# Altium footprint library SI5332A-D-GM3.PcbLib: 3 footprints
Each footprint in its own frame and in the unit in brackets; x right, y up, seen from the top. Pads: shape width x height; smd on the part's side, far side on the other; paste and mask are expansions set on the pad; w line width, h text height; cw(c..) or ccw(c..) is an arc to the next point about the centre after c.
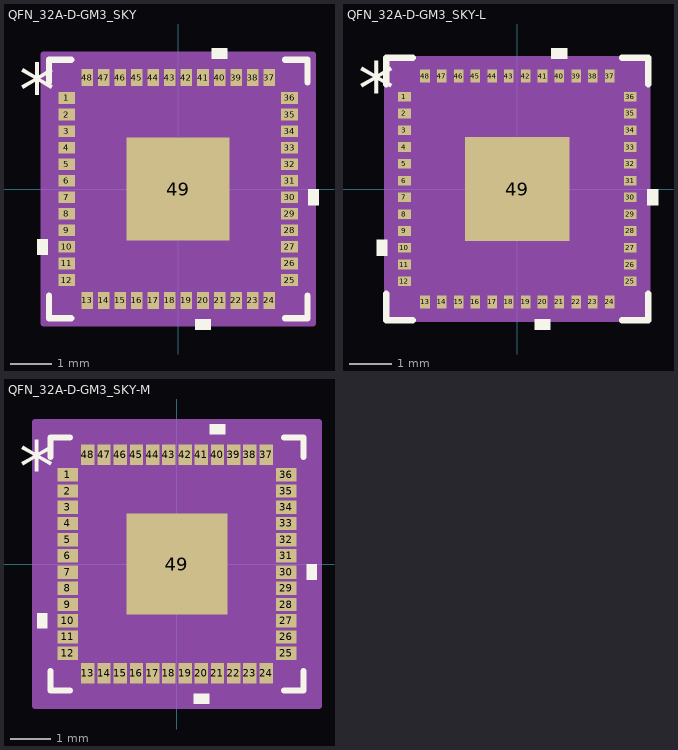
[diagram p0: the footprints below, top view; thin cyan lines are the x and y axes]

## QFN_32A-D-GM3_SKY [mil]
pads (49):
  rect 16x11 smd paste+0 mask+0: 1(-106,86.62) 2(-106,70.88) 3(-106,55.12) 4(-106,39.38) 5(-106,23.62) 6(-106,7.88) 7(-106,-7.88) 8(-106,-23.62) 9(-106,-39.38) 10(-106,-55.12) 11(-106,-70.88) 12(-106,-86.62) 25(106,-86.62) 26(106,-70.88) 27(106,-55.12) 28(106,-39.38) 29(106,-23.62) 30(106,-7.88) 31(106,7.88) 32(106,23.62) 33(106,39.38) 34(106,55.12) 35(106,70.88) 36(106,86.62)
  rect 11x16 smd paste+0 mask+0: 13(-86.62,-106) 14(-70.88,-106) 15(-55.12,-106) 16(-39.38,-106) 17(-23.62,-106) 18(-7.88,-106) 19(7.88,-106) 20(23.62,-106) 21(39.38,-106) 22(55.12,-106) 23(70.88,-106) 24(86.62,-106) 37(86.62,106) 38(70.88,106) 39(55.12,106) 40(39.38,106) 41(23.62,106) 42(7.88,106) 43(-7.88,106) 44(-23.62,106) 45(-39.38,106) 46(-55.12,106) 47(-70.88,106) 48(-86.62,106)
  rect 98x98 smd paste+0 mask+0: 49(0,0)
Top Overlay:
  region: -124,-47.62 -134,-47.62 -134,-62.62 -124,-62.62
  region: 31.12,-124 16.12,-124 16.12,-134 31.12,-134
  region: 124,-0.38 134,-0.38 134,-15.38 124,-15.38
  region: 46.88,124 31.88,124 31.88,134 46.88,134
  lines w6: -123,-101.64 -123,-123 -101.64,-123 ; -123,101.64 -123,123 -101.64,123 ; 101.64,-123 123,-123 123,-101.64 ; 101.64,123 123,123 123,101.64
  text "*" at -151.5,69.5 h50
Mechanical 13:
  drawing of 201 lines, arcs and shapes, not listed
  text "*" at -110.5,69.5 h50
Mechanical 15:
  region: -102.12,-128 -128,-128 -128,-102.12 -128,102.12 -128,128 -102.12,128 102.12,128 128,128 128,102.12 128,-102.12 128,-128 102.12,-128
  lines w6: -128,-102.12 -128,-128 -102.12,-128 ; -128,-102.12 -128,-102.12 ; -128,-102.12 -128,102.12 ; -128,102.12 -128,102.12 ; -128,102.12 -128,128 -102.12,128 ; -102.12,-128 102.12,-128 ; -102.12,-128 -102.12,-128 ; -102.12,128 -102.12,128 ; -102.12,128 102.12,128 ; 102.12,-128 128,-128 128,-102.12 ; 102.12,-128 102.12,-128 ; 102.12,128 102.12,128 ; 102.12,128 128,128 128,102.12 ; 128,-102.12 128,102.12 ; 128,-102.12 128,-102.12 ; 128,102.12 128,102.12
3D body "QFN_32A-D-GM3_SKY.step": height 43.11, standoff 0, extent -117.99,-117.99 117.99,117.99

## QFN_32A-D-GM3_SKY-L [mil]
pads (49):
  rect 12x9 smd paste+0 mask+0: 1(-106,86.62) 2(-106,70.88) 3(-106,55.12) 4(-106,39.38) 5(-106,23.62) 6(-106,7.88) 7(-106,-7.88) 8(-106,-23.62) 9(-106,-39.38) 10(-106,-55.12) 11(-106,-70.88) 12(-106,-86.62) 25(106,-86.62) 26(106,-70.88) 27(106,-55.12) 28(106,-39.38) 29(106,-23.62) 30(106,-7.88) 31(106,7.88) 32(106,23.62) 33(106,39.38) 34(106,55.12) 35(106,70.88) 36(106,86.62)
  rect 9x12 smd paste+0 mask+0: 13(-86.62,-106) 14(-70.88,-106) 15(-55.12,-106) 16(-39.38,-106) 17(-23.62,-106) 18(-7.88,-106) 19(7.88,-106) 20(23.62,-106) 21(39.38,-106) 22(55.12,-106) 23(70.88,-106) 24(86.62,-106) 37(86.62,106) 38(70.88,106) 39(55.12,106) 40(39.38,106) 41(23.62,106) 42(7.88,106) 43(-7.88,106) 44(-23.62,106) 45(-39.38,106) 46(-55.12,106) 47(-70.88,106) 48(-86.62,106)
  rect 98x98 smd paste+0 mask+0: 49(0,0)
Top Overlay:
  region: -122,-47.62 -132,-47.62 -132,-62.62 -122,-62.62
  region: 31.12,-122 16.12,-122 16.12,-132 31.12,-132
  region: 122,-0.38 132,-0.38 132,-15.38 122,-15.38
  region: 46.88,122 31.88,122 31.88,132 46.88,132
  lines w6: -123,-98.24 -123,-123 -98.24,-123 ; -123,98.24 -123,123 -98.24,123 ; 98.24,-123 123,-123 123,-98.24 ; 98.24,123 123,123 123,98.24
  text "*" at -149.5,69.5 h50
Mechanical 13:
  drawing of 201 lines, arcs and shapes, not listed
  text "*" at -112.5,69.5 h50
Mechanical 15:
  region: -95.12,-122 -122,-122 -122,-95.12 -122,95.12 -122,122 -95.12,122 95.12,122 122,122 122,95.12 122,-95.12 122,-122 95.12,-122
  lines w6: -122,-95.12 -122,-122 -95.12,-122 ; -122,-95.12 -122,-95.12 ; -122,-95.12 -122,95.12 ; -122,95.12 -122,95.12 ; -122,95.12 -122,122 -95.12,122 ; -95.12,-122 95.12,-122 ; -95.12,-122 -95.12,-122 ; -95.12,122 -95.12,122 ; -95.12,122 95.12,122 ; 95.12,-122 122,-122 122,-95.12 ; 95.12,-122 95.12,-122 ; 95.12,122 95.12,122 ; 95.12,122 122,122 122,95.12 ; 122,-95.12 122,95.12 ; 122,-95.12 122,-95.12 ; 122,95.12 122,95.12
3D body "QFN_32A-D-GM3_SKY.step": height 43.11, standoff 0, extent -117.99,-117.99 117.99,117.99

## QFN_32A-D-GM3_SKY-M [mil]
pads (49):
  rect 20x13 smd paste+0 mask+0: 1(-106,86.62) 2(-106,70.88) 3(-106,55.12) 4(-106,39.38) 5(-106,23.62) 6(-106,7.88) 7(-106,-7.88) 8(-106,-23.62) 9(-106,-39.38) 10(-106,-55.12) 11(-106,-70.88) 12(-106,-86.62) 25(106,-86.62) 26(106,-70.88) 27(106,-55.12) 28(106,-39.38) 29(106,-23.62) 30(106,-7.88) 31(106,7.88) 32(106,23.62) 33(106,39.38) 34(106,55.12) 35(106,70.88) 36(106,86.62)
  rect 13x20 smd paste+0 mask+0: 13(-86.62,-106) 14(-70.88,-106) 15(-55.12,-106) 16(-39.38,-106) 17(-23.62,-106) 18(-7.88,-106) 19(7.88,-106) 20(23.62,-106) 21(39.38,-106) 22(55.12,-106) 23(70.88,-106) 24(86.62,-106) 37(86.62,106) 38(70.88,106) 39(55.12,106) 40(39.38,106) 41(23.62,106) 42(7.88,106) 43(-7.88,106) 44(-23.62,106) 45(-39.38,106) 46(-55.12,106) 47(-70.88,106) 48(-86.62,106)
  rect 98x98 smd paste+0 mask+0: 49(0,0)
Top Overlay:
  region: -126,-47.62 -136,-47.62 -136,-62.62 -126,-62.62
  region: 31.12,-126 16.12,-126 16.12,-136 31.12,-136
  region: 126,-0.38 136,-0.38 136,-15.38 126,-15.38
  region: 46.88,126 31.88,126 31.88,136 46.88,136
  lines w6: -123,-104.2 -123,-123 -104.2,-123 ; -123,104.2 -123,123 -104.2,123 ; 104.2,-123 123,-123 123,-104.2 ; 104.2,123 123,123 123,104.2
  text "*" at -153.5,69.5 h50
Mechanical 13:
  drawing of 201 lines, arcs and shapes, not listed
  text "*" at -108.5,69.5 h50
Mechanical 15:
  region: -113.12,-138 -138,-138 -138,-113.12 -138,113.12 -138,138 -113.12,138 113.12,138 138,138 138,113.12 138,-113.12 138,-138 113.12,-138
  lines w6: -138,-113.12 -138,-138 -113.12,-138 ; -138,-113.12 -138,-113.12 ; -138,-113.12 -138,113.12 ; -138,113.12 -138,113.12 ; -138,113.12 -138,138 -113.12,138 ; -113.12,-138 113.12,-138 ; -113.12,-138 -113.12,-138 ; -113.12,138 -113.12,138 ; -113.12,138 113.12,138 ; 113.12,-138 138,-138 138,-113.12 ; 113.12,-138 113.12,-138 ; 113.12,138 113.12,138 ; 113.12,138 138,138 138,113.12 ; 138,-113.12 138,113.12 ; 138,-113.12 138,-113.12 ; 138,113.12 138,113.12
3D body "QFN_32A-D-GM3_SKY.step": height 43.11, standoff 0, extent -117.99,-117.99 117.99,117.99